# EAGLE library part DSUB9 (library dsub90)
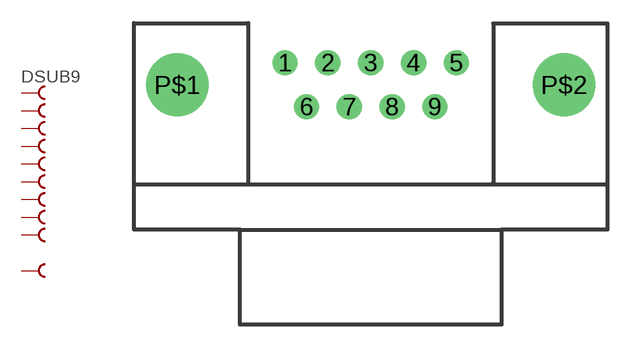
[diagram p0: symbol with the pads of H3M09RA; footprint H3M09RA]

Designator prefix -

## DSUB9  [H3M09RA]
1  P1  pas
2  P2  pas
3  P3  pas
4  P4  pas
5  P5  pas
6  P6  pas
7  P7  pas
8  P8  pas
9  P9  pas
P$1  S  pas
P$2  S  pas

## Footprint H3M09RA (pad centres in mm)
THOMAS&BETTS H3M09RA29A
drill 1.092: 1 -5.537,1.422; 2 -2.769,1.422; 3 0,1.422; 4 2.769,1.422; 5 5.537,1.422; 6 -4.153,-1.422; 7 -1.384,-1.422; 8 1.384,-1.422; 9 4.153,-1.422
drill 3.048 pad 4.064: P$1 -12.497,0; P$2 12.497,0